# Altium integrated library B3B-PH-SM4-TB_LF__SN_.IntLib: 1 symbol
Pins are listed as number, name and electrical type; pins without a type are passive.

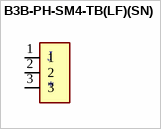
[diagram p0: symbol B3B-PH-SM4-TB(LF)(SN)]

## B3B-PH-SM4-TB(LF)(SN)
designator J
Connector Header Surface Mount 3 position 0.079 _2.00mm_; MF: JST Sales; MP: B3B-PH-SM4-TB_LF__SN_; Digi-Key_Part_Number: 455-1735-1-ND; Digi-Key_Purchase_URL: https://www.digikey.com/product-detail/en/jst-sales-america-inc/B3B-PH-SM4-TB_LF__SN_/455-1735-1-ND/926832?utm_source=snapeda&utm_medium=aggregator&utm_campaign=symbol; Value: *; SnapEDA_Link: https://www.snapeda.com/parts/B3B-PH-SM4-TB%28LF%29%28SN%29/JST%20Sales%20America%20Inc./view-part/53135/?ref=snap; Package: 2010 JST
footprint JST_B3B-PH-SM4-TB(LF)(SN)
pins: 1, 2, 3